# EAGLE library part DIAL-SWITCH (library Elecrow_Discrete)
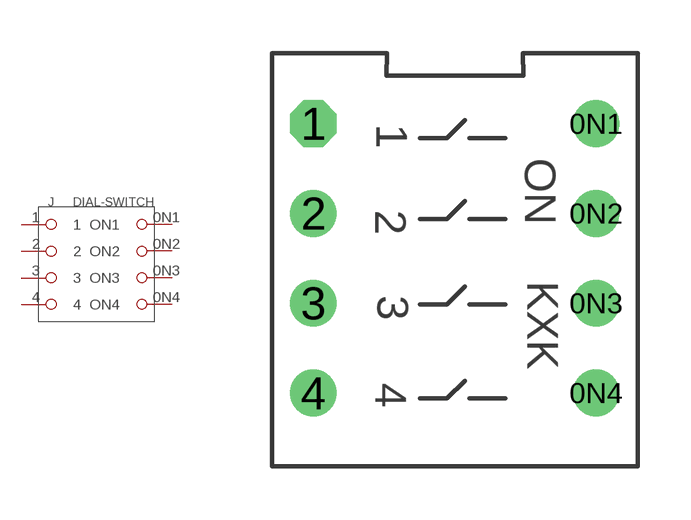
[diagram p13: symbol with the pads of DIAL-SWITCH; footprint DIAL-SWITCH]

Designator prefix J

## DIAL-SWITCH  [DIAL-SWITCH]
0N1  ON1
0N2  ON2
0N3  ON3
0N4  ON4
1  1
2  2
3  3
4  4

## Footprint DIAL-SWITCH (pad centres in mm)
drill 0.813 pad 1.27: 0N1 6,1.175; 0N2 6,-1.365; 0N3 6,-3.905; 0N4 6,-6.445; 2 -2,-1.365; 3 -2,-3.905; 4 -2,-6.445
drill 0.813 pad 1.27 octagon: 1 -2,1.175